# EAGLE library part LT3790 (library dc-dc-regulators)
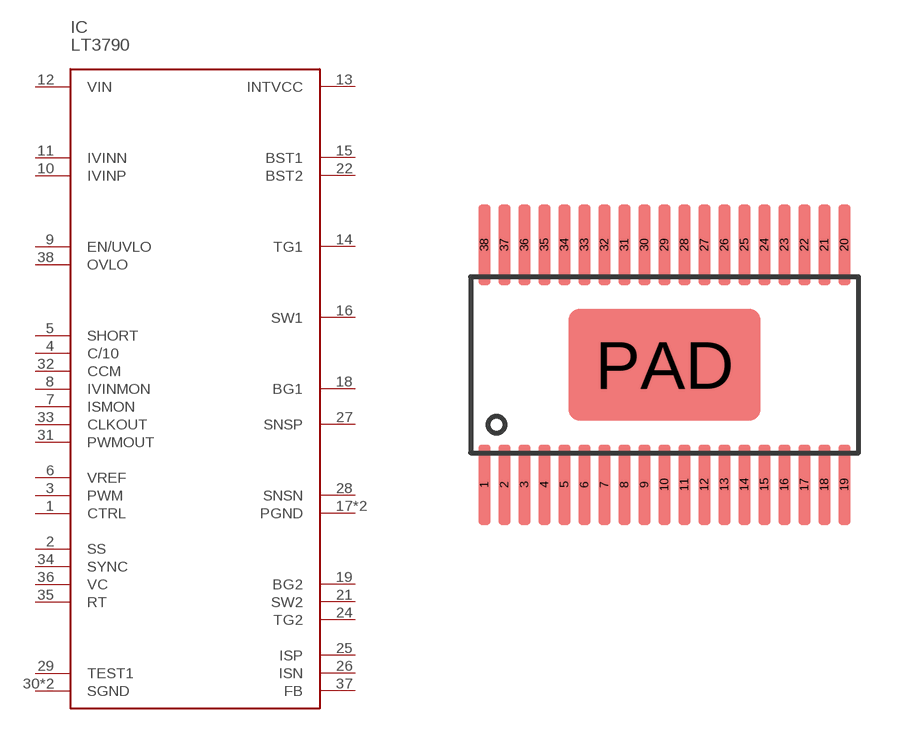
[diagram p3: symbol with the pads of TSSOP38-P; footprint TSSOP38-P]

Designator prefix IC

## LT3790  [TSSOP38-P]
1  CTRL
2  SS
3  PWM
4  C/10
5  SHORT
6  VREF
7  ISMON
8  IVINMON
9  EN/UVLO
10  IVINP
11  IVINN
12  VIN
13  INTVCC
14  TG1
15  BST1
16  SW1
17  PGND
18  BG1
19  BG2
20  PGND
21  SW2
22  BST2
24  TG2
25  ISP
26  ISN
27  SNSP
28  SNSN
29  TEST1
30  SGND
31  PWMOUT
32  CCM
33  CLKOUT
34  SYNC
35  RT
36  VC
37  FB
38  OVLO
PAD  SGND

## Footprint TSSOP38-P (pad centres in mm)
smd 0.3 x 2: 1 -4.5,-3; 2 -4,-3; 3 -3.5,-3; 4 -3,-3; 5 -2.5,-3; 6 -2,-3; 7 -1.5,-3; 8 -1,-3; 9 -0.5,-3; 10 0,-3; 11 0.5,-3; 12 1,-3; 13 1.5,-3; 14 2,-3; 15 2.5,-3; 16 3,-3; 17 3.5,-3; 18 4,-3; 19 4.5,-3; 20 4.5,3; 21 4,3; 22 3.5,3; 23 3,3; 24 2.5,3; 25 2,3; 26 1.5,3; 27 1,3; 28 0.5,3; 29 0,3; 30 -0.5,3; 31 -1,3; 32 -1.5,3; 33 -2,3; 34 -2.5,3; 35 -3,3; 36 -3.5,3; 37 -4,3; 38 -4.5,3
smd 4.8 x 2.8: PAD 0,0